# Altium integrated library TPS51200DRCT.IntLib: 1 symbol
Pins are listed as number, name and electrical type; pins without a type are passive.

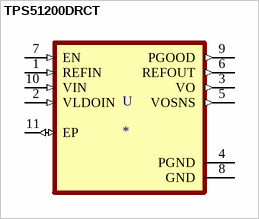
[diagram p0: symbol TPS51200DRCT]

## TPS51200DRCT
designator U
3A Sink/Source DDR Termination Regulator w/ VTTREF Buffered Reference for DDR2, DDR3, DDR3L and DDR4 10-VSON -40 to 85; MP: TPS51200DRCT; MF: Texas Instruments; Availability: Good; Price: None; Mouser-Purchase-URL: https://snapeda.com/shop?store=Mouser&id=256320; Package: VSON-10 Texas Instruments; DigiKey-Purchase-URL: https://snapeda.com/shop?store=DigiKey&id=256320; SnapEDA_Link: https://www.snapeda.com/parts/TPS51200DRCT/Texas%20Instruments/view-part/256320/?ref=snap; Value: *; Arrow_Electronics-Purchase-URL: https://snapeda.com/shop?store=Arrow+Electronics&id=256320; Texas_Instruments-Purchase-URL: https://snapeda.com/shop?store=Texas+Instruments&id=256320
footprint VREG_V62/16624-01YE
pins: 1 REFIN (in), 2 VLDOIN (in), 3 VO (out), 4 PGND (power), 5 VOSNS (out), 6 REFOUT (out), 7 EN (in), 8 GND (power), 9 PGOOD (out), 10 VIN (in), 11 EP (io)